# Altium integrated library Linear Technology Power Management LDO Linear Regulators.IntLib: 2339 symbols (part 89 of 131)
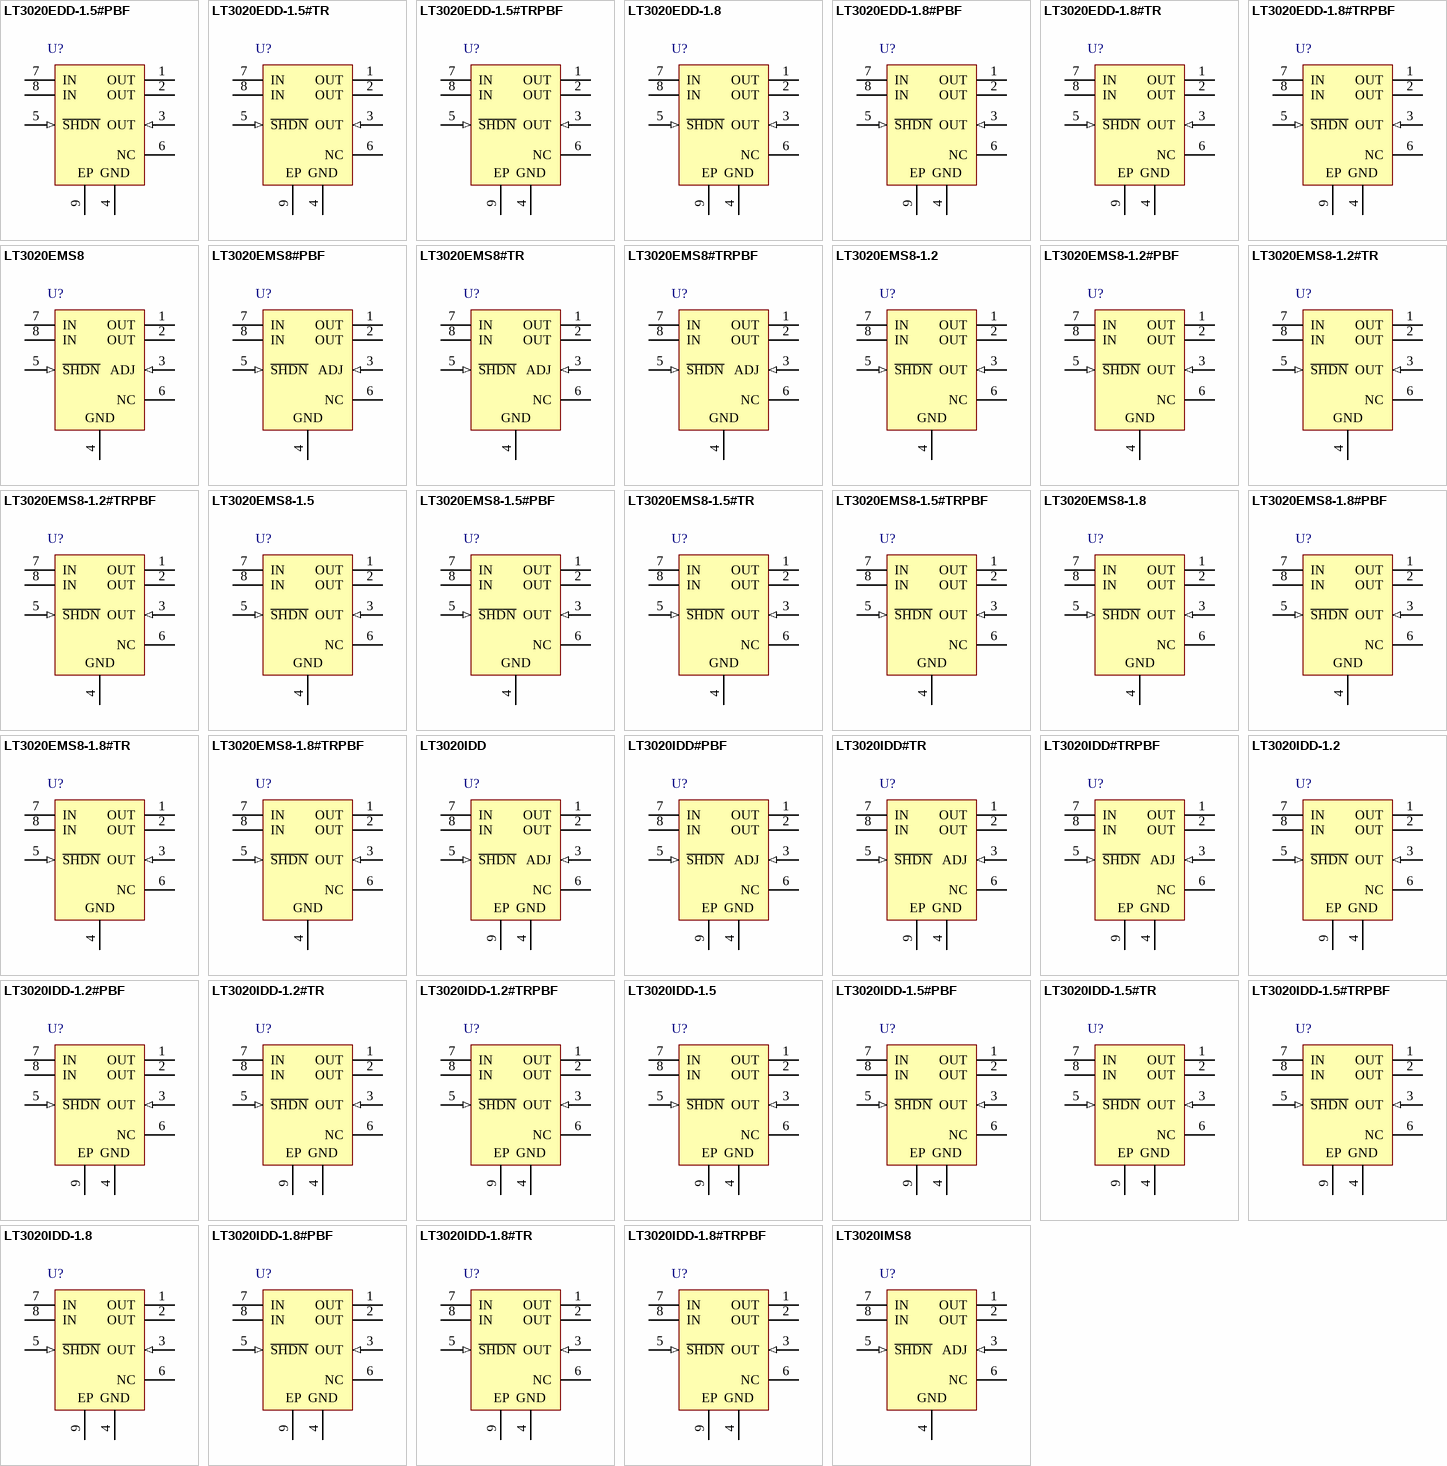
[diagram p157: symbols LT3020EDD-1.5#PBF to LT3020IMS8]

## LT3020IDD#TR
designator U?
100 mA, Low Voltage, Very Low Dropout Linear Regulator, 0.9 to 10 V Vin, Adjustable Vout, 8-pin SON (DD-8), -40 to 125 degC, Tape and Reel; Manufacturer: Linear Technology; PartNumber: LT3020IDD#TR; Discrete Pass Element: no; Dropout Voltage(V): 0.15; Iout(mA): 100; Isupply(mA): 0.12; Noise(uV): 245; Number of Outputs: 1; Output Voltage: Adj; PSRR(dB): 64; Shutdown Current(uA): 3; Vin Max(V): 10; Vin Min(V): 0.9; Vout Max(V): 9.8; Vout Min(V): 0.2; DatasheetVersion: Rev. C; PackageVersion: Jun-10; PackageReference: DD-8; PackageDescription: 8-Pin Plastic DFN, Body 3 x 3 mm, Pitch 0.5 mm; Packing: Tape and Reel; RoHS: FALSE; Mounting Technology: Surface Mount; Code_JEDEC: MO-229; ComponentLink1Description: Manufacturer URL; ComponentLink1URL: http://www.linear.com/; ComponentLink2Description: Datasheet; ComponentLink2URL: http://cds.linear.com/docs/en/datasheet/3020fc.pdf; ComponentLink3Description: Package Specification; ComponentLink3URL: http://cds.linear.com/docs/en/packaging/DFN_8_05-08-1698.pdf
footprint LT-DD-8_V (SON, 8-Leads, Body 3x3mm, Pitch 0.5mm, Thermal Pad 1.65x2.38 mm, IPC Low Density)
pins: 1 OUT (power) "These pins supply power to the load. Use a minimum output capacitor of 2.2uF to prevent oscillations. Applications with large load transients require larger output capacitors to limit peak voltage transients. See the (See Datasheet)", 2 OUT (power) "These pins supply power to the load. Use a minimum output capacitor of 2.2uF to prevent oscillations. Applications with large load transients require larger output capacitors to limit peak voltage transients. See the (See Datasheet)", 3 ADJ (in) "This pin is the inverting terminal to the error amplifier. Its typical input bias current of 20nA flows out of the pin (see curve of ADJ Pin Bias Current vs Temperature in the Typical Performance Characteristics). The ADJ (See Datasheet)", 4 GND (power) "Ground.", 5 ~{SHDN} (in) "The S\H\D\N\ pin puts the LT3020 into a low power state. Pulling the S\H\D\N\ pin low turns the output off. Drive the S\H\D\N\ pin with either logic or an open collector/ drain device with a pull-up resistor. The pull-up (See Datasheet)", 6 NC, 7 IN (power) "These pins supply power to the device. The LT3020 requires a bypass capacitor at IN if it is more than six inches away from the main input filter capacitor. The output impedance of a battery rises with frequency, so include (See Datasheet)", 8 IN (power) "These pins supply power to the device. The LT3020 requires a bypass capacitor at IN if it is more than six inches away from the main input filter capacitor. The output impedance of a battery rises with frequency, so include (See Datasheet)", 9 EP (power) "Ground. Solder Pin 9 (the exposed pad) to the PCB. Connect directly to Pin 4 for best performance."

## LT3020IDD#TRPBF
designator U?
100 mA, Low Voltage, Very Low Dropout Linear Regulator, 0.9 to 10 V Vin, Adjustable Vout, 8-pin SON (DD-8), -40 to 125 degC, Pb-Free, Tape and Reel; Manufacturer: Linear Technology; PartNumber: LT3020IDD#TRPBF; Discrete Pass Element: no; Dropout Voltage(V): 0.15; Iout(mA): 100; Isupply(mA): 0.12; Noise(uV): 245; Number of Outputs: 1; Output Voltage: Adj; PSRR(dB): 64; Shutdown Current(uA): 3; Vin Max(V): 10; Vin Min(V): 0.9; Vout Max(V): 9.8; Vout Min(V): 0.2; DatasheetVersion: Rev. C; PackageVersion: Jun-10; PackageReference: DD-8; PackageDescription: 8-Pin Plastic DFN, Body 3 x 3 mm, Pitch 0.5 mm; Supplier 1: Digi-Key; Supplier Part Number 1: LT3020IDD#TRPBF-ND; Supplier 2: Newark; Supplier Part Number 2: 78R8430; Packing: Tape and Reel; RoHS: TRUE; Mounting Technology: Surface Mount; Code_JEDEC: MO-229; ComponentLink1Description: Manufacturer URL; ComponentLink1URL: http://www.linear.com/; ComponentLink2Description: Datasheet; ComponentLink2URL: http://cds.linear.com/docs/en/datasheet/3020fc.pdf; ComponentLink3Description: Package Specification; ComponentLink3URL: http://cds.linear.com/docs/en/packaging/DFN_8_05-08-1698.pdf
footprint LT-DD-8_V (SON, 8-Leads, Body 3x3mm, Pitch 0.5mm, Thermal Pad 1.65x2.38 mm, IPC Low Density)
pins: 1 OUT (power) "These pins supply power to the load. Use a minimum output capacitor of 2.2uF to prevent oscillations. Applications with large load transients require larger output capacitors to limit peak voltage transients. See the (See Datasheet)", 2 OUT (power) "These pins supply power to the load. Use a minimum output capacitor of 2.2uF to prevent oscillations. Applications with large load transients require larger output capacitors to limit peak voltage transients. See the (See Datasheet)", 3 ADJ (in) "This pin is the inverting terminal to the error amplifier. Its typical input bias current of 20nA flows out of the pin (see curve of ADJ Pin Bias Current vs Temperature in the Typical Performance Characteristics). The ADJ (See Datasheet)", 4 GND (power) "Ground.", 5 ~{SHDN} (in) "The S\H\D\N\ pin puts the LT3020 into a low power state. Pulling the S\H\D\N\ pin low turns the output off. Drive the S\H\D\N\ pin with either logic or an open collector/ drain device with a pull-up resistor. The pull-up (See Datasheet)", 6 NC, 7 IN (power) "These pins supply power to the device. The LT3020 requires a bypass capacitor at IN if it is more than six inches away from the main input filter capacitor. The output impedance of a battery rises with frequency, so include (See Datasheet)", 8 IN (power) "These pins supply power to the device. The LT3020 requires a bypass capacitor at IN if it is more than six inches away from the main input filter capacitor. The output impedance of a battery rises with frequency, so include (See Datasheet)", 9 EP (power) "Ground. Solder Pin 9 (the exposed pad) to the PCB. Connect directly to Pin 4 for best performance."

## LT3020IDD-1.2
designator U?
100 mA, Low Voltage, Very Low Dropout Linear Regulator, 0.9 to 10 V Vin, 1.2 V Vout, 8-pin SON (DD-8), -40 to 125 degC; Manufacturer: Linear Technology; PartNumber: LT3020IDD-1.2; Discrete Pass Element: no; Dropout Voltage(V): 0.15; Iout(mA): 100; Isupply(mA): 0.12; Noise(uV): 245; Number of Outputs: 1; Output Voltage: 1.2 V; PSRR(dB): 60; Shutdown Current(uA): 3; Vin Max(V): 10; Vin Min(V): 0.9; DatasheetVersion: Rev. C; PackageVersion: Jun-10; PackageReference: DD-8; PackageDescription: 8-Pin Plastic DFN, Body 3 x 3 mm, Pitch 0.5 mm; RoHS: FALSE; Mounting Technology: Surface Mount; Code_JEDEC: MO-229; ComponentLink1Description: Manufacturer URL; ComponentLink1URL: http://www.linear.com/; ComponentLink2Description: Datasheet; ComponentLink2URL: http://cds.linear.com/docs/en/datasheet/3020fc.pdf; ComponentLink3Description: Package Specification; ComponentLink3URL: http://cds.linear.com/docs/en/packaging/DFN_8_05-08-1698.pdf
footprint LT-DD-8_V (SON, 8-Leads, Body 3x3mm, Pitch 0.5mm, Thermal Pad 1.65x2.38 mm, IPC Low Density)
pins: 1 OUT (power) "These pins supply power to the load. Use a minimum output capacitor of 2.2uF to prevent oscillations. Applications with large load transients require larger output capacitors to limit peak voltage transients. See the (See Datasheet)", 2 OUT (power) "These pins supply power to the load. Use a minimum output capacitor of 2.2uF to prevent oscillations. Applications with large load transients require larger output capacitors to limit peak voltage transients. See the (See Datasheet)", 3 OUT (in) "This pin is the sense point for the internal resistor divider. It should be tied directly to the other OUT pins (1, 2) for best results.", 4 GND (power) "Ground.", 5 ~{SHDN} (in) "The S\H\D\N\ pin puts the LT3020 into a low power state. Pulling the S\H\D\N\ pin low turns the output off. Drive the S\H\D\N\ pin with either logic or an open collector/ drain device with a pull-up resistor. The pull-up (See Datasheet)", 6 NC, 7 IN (power) "These pins supply power to the device. The LT3020 requires a bypass capacitor at IN if it is more than six inches away from the main input filter capacitor. The output impedance of a battery rises with frequency, so include (See Datasheet)", 8 IN (power) "These pins supply power to the device. The LT3020 requires a bypass capacitor at IN if it is more than six inches away from the main input filter capacitor. The output impedance of a battery rises with frequency, so include (See Datasheet)", 9 EP (power) "Ground. Solder Pin 9 (the exposed pad) to the PCB. Connect directly to Pin 4 for best performance."

## LT3020IDD-1.2#PBF
designator U?
100 mA, Low Voltage, Very Low Dropout Linear Regulator, 0.9 to 10 V Vin, 1.2 V Vout, 8-pin SON (DD-8), -40 to 125 degC, Pb-Free; Manufacturer: Linear Technology; PartNumber: LT3020IDD-1.2#PBF; Discrete Pass Element: no; Dropout Voltage(V): 0.15; Iout(mA): 100; Isupply(mA): 0.12; Noise(uV): 245; Number of Outputs: 1; Output Voltage: 1.2 V; PSRR(dB): 60; Shutdown Current(uA): 3; Vin Max(V): 10; Vin Min(V): 0.9; DatasheetVersion: Rev. C; PackageVersion: Jun-10; PackageReference: DD-8; PackageDescription: 8-Pin Plastic DFN, Body 3 x 3 mm, Pitch 0.5 mm; Supplier 1: Digi-Key; Supplier Part Number 1: LT3020IDD-1.2#PBF-ND; RoHS: TRUE; Mounting Technology: Surface Mount; Code_JEDEC: MO-229; ComponentLink1Description: Manufacturer URL; ComponentLink1URL: http://www.linear.com/; ComponentLink2Description: Datasheet; ComponentLink2URL: http://cds.linear.com/docs/en/datasheet/3020fc.pdf; ComponentLink3Description: Package Specification; ComponentLink3URL: http://cds.linear.com/docs/en/packaging/DFN_8_05-08-1698.pdf
footprint LT-DD-8_V (SON, 8-Leads, Body 3x3mm, Pitch 0.5mm, Thermal Pad 1.65x2.38 mm, IPC Low Density)
pins: 1 OUT (power) "These pins supply power to the load. Use a minimum output capacitor of 2.2uF to prevent oscillations. Applications with large load transients require larger output capacitors to limit peak voltage transients. See the (See Datasheet)", 2 OUT (power) "These pins supply power to the load. Use a minimum output capacitor of 2.2uF to prevent oscillations. Applications with large load transients require larger output capacitors to limit peak voltage transients. See the (See Datasheet)", 3 OUT (in) "This pin is the sense point for the internal resistor divider. It should be tied directly to the other OUT pins (1, 2) for best results.", 4 GND (power) "Ground.", 5 ~{SHDN} (in) "The S\H\D\N\ pin puts the LT3020 into a low power state. Pulling the S\H\D\N\ pin low turns the output off. Drive the S\H\D\N\ pin with either logic or an open collector/ drain device with a pull-up resistor. The pull-up (See Datasheet)", 6 NC, 7 IN (power) "These pins supply power to the device. The LT3020 requires a bypass capacitor at IN if it is more than six inches away from the main input filter capacitor. The output impedance of a battery rises with frequency, so include (See Datasheet)", 8 IN (power) "These pins supply power to the device. The LT3020 requires a bypass capacitor at IN if it is more than six inches away from the main input filter capacitor. The output impedance of a battery rises with frequency, so include (See Datasheet)", 9 EP (power) "Ground. Solder Pin 9 (the exposed pad) to the PCB. Connect directly to Pin 4 for best performance."

## LT3020IDD-1.2#TR
designator U?
100 mA, Low Voltage, Very Low Dropout Linear Regulator, 0.9 to 10 V Vin, 1.2 V Vout, 8-pin SON (DD-8), -40 to 125 degC, Tape and Reel; Manufacturer: Linear Technology; PartNumber: LT3020IDD-1.2#TR; Discrete Pass Element: no; Dropout Voltage(V): 0.15; Iout(mA): 100; Isupply(mA): 0.12; Noise(uV): 245; Number of Outputs: 1; Output Voltage: 1.2 V; PSRR(dB): 60; Shutdown Current(uA): 3; Vin Max(V): 10; Vin Min(V): 0.9; DatasheetVersion: Rev. C; PackageVersion: Jun-10; PackageReference: DD-8; PackageDescription: 8-Pin Plastic DFN, Body 3 x 3 mm, Pitch 0.5 mm; Packing: Tape and Reel; RoHS: FALSE; Mounting Technology: Surface Mount; Code_JEDEC: MO-229; ComponentLink1Description: Manufacturer URL; ComponentLink1URL: http://www.linear.com/; ComponentLink2Description: Datasheet; ComponentLink2URL: http://cds.linear.com/docs/en/datasheet/3020fc.pdf; ComponentLink3Description: Package Specification; ComponentLink3URL: http://cds.linear.com/docs/en/packaging/DFN_8_05-08-1698.pdf
footprint LT-DD-8_V (SON, 8-Leads, Body 3x3mm, Pitch 0.5mm, Thermal Pad 1.65x2.38 mm, IPC Low Density)
pins: 1 OUT (power) "These pins supply power to the load. Use a minimum output capacitor of 2.2uF to prevent oscillations. Applications with large load transients require larger output capacitors to limit peak voltage transients. See the (See Datasheet)", 2 OUT (power) "These pins supply power to the load. Use a minimum output capacitor of 2.2uF to prevent oscillations. Applications with large load transients require larger output capacitors to limit peak voltage transients. See the (See Datasheet)", 3 OUT (in) "This pin is the sense point for the internal resistor divider. It should be tied directly to the other OUT pins (1, 2) for best results.", 4 GND (power) "Ground.", 5 ~{SHDN} (in) "The S\H\D\N\ pin puts the LT3020 into a low power state. Pulling the S\H\D\N\ pin low turns the output off. Drive the S\H\D\N\ pin with either logic or an open collector/ drain device with a pull-up resistor. The pull-up (See Datasheet)", 6 NC, 7 IN (power) "These pins supply power to the device. The LT3020 requires a bypass capacitor at IN if it is more than six inches away from the main input filter capacitor. The output impedance of a battery rises with frequency, so include (See Datasheet)", 8 IN (power) "These pins supply power to the device. The LT3020 requires a bypass capacitor at IN if it is more than six inches away from the main input filter capacitor. The output impedance of a battery rises with frequency, so include (See Datasheet)", 9 EP (power) "Ground. Solder Pin 9 (the exposed pad) to the PCB. Connect directly to Pin 4 for best performance."

## LT3020IDD-1.2#TRPBF
designator U?
100 mA, Low Voltage, Very Low Dropout Linear Regulator, 0.9 to 10 V Vin, 1.2 V Vout, 8-pin SON (DD-8), -40 to 125 degC, Pb-Free, Tape and Reel; Manufacturer: Linear Technology; PartNumber: LT3020IDD-1.2#TRPBF; Discrete Pass Element: no; Dropout Voltage(V): 0.15; Iout(mA): 100; Isupply(mA): 0.12; Noise(uV): 245; Number of Outputs: 1; Output Voltage: 1.2 V; PSRR(dB): 60; Shutdown Current(uA): 3; Vin Max(V): 10; Vin Min(V): 0.9; DatasheetVersion: Rev. C; PackageVersion: Jun-10; PackageReference: DD-8; PackageDescription: 8-Pin Plastic DFN, Body 3 x 3 mm, Pitch 0.5 mm; Supplier 1: Digi-Key; Supplier Part Number 1: LT3020IDD-1.2#TRPBF-ND; Supplier 2: Newark; Supplier Part Number 2: 57M7953; Packing: Tape and Reel; RoHS: TRUE; Mounting Technology: Surface Mount; Code_JEDEC: MO-229; ComponentLink1Description: Manufacturer URL; ComponentLink1URL: http://www.linear.com/; ComponentLink2Description: Datasheet; ComponentLink2URL: http://cds.linear.com/docs/en/datasheet/3020fc.pdf; ComponentLink3Description: Package Specification; ComponentLink3URL: http://cds.linear.com/docs/en/packaging/DFN_8_05-08-1698.pdf
footprint LT-DD-8_V (SON, 8-Leads, Body 3x3mm, Pitch 0.5mm, Thermal Pad 1.65x2.38 mm, IPC Low Density)
pins: 1 OUT (power) "These pins supply power to the load. Use a minimum output capacitor of 2.2uF to prevent oscillations. Applications with large load transients require larger output capacitors to limit peak voltage transients. See the (See Datasheet)", 2 OUT (power) "These pins supply power to the load. Use a minimum output capacitor of 2.2uF to prevent oscillations. Applications with large load transients require larger output capacitors to limit peak voltage transients. See the (See Datasheet)", 3 OUT (in) "This pin is the sense point for the internal resistor divider. It should be tied directly to the other OUT pins (1, 2) for best results.", 4 GND (power) "Ground.", 5 ~{SHDN} (in) "The S\H\D\N\ pin puts the LT3020 into a low power state. Pulling the S\H\D\N\ pin low turns the output off. Drive the S\H\D\N\ pin with either logic or an open collector/ drain device with a pull-up resistor. The pull-up (See Datasheet)", 6 NC, 7 IN (power) "These pins supply power to the device. The LT3020 requires a bypass capacitor at IN if it is more than six inches away from the main input filter capacitor. The output impedance of a battery rises with frequency, so include (See Datasheet)", 8 IN (power) "These pins supply power to the device. The LT3020 requires a bypass capacitor at IN if it is more than six inches away from the main input filter capacitor. The output impedance of a battery rises with frequency, so include (See Datasheet)", 9 EP (power) "Ground. Solder Pin 9 (the exposed pad) to the PCB. Connect directly to Pin 4 for best performance."

## LT3020IDD-1.5
designator U?
100 mA, Low Voltage, Very Low Dropout Linear Regulator, 0.9 to 10 V Vin, 1.5 V Vout, 8-pin SON (DD-8), -40 to 125 degC; Manufacturer: Linear Technology; PartNumber: LT3020IDD-1.5; Discrete Pass Element: no; Dropout Voltage(V): 0.15; Iout(mA): 100; Isupply(mA): 0.12; Noise(uV): 245; Number of Outputs: 1; Output Voltage: 1.5 V; PSRR(dB): 58; Shutdown Current(uA): 3; Vin Max(V): 10; Vin Min(V): 0.9; DatasheetVersion: Rev. C; PackageVersion: Jun-10; PackageReference: DD-8; PackageDescription: 8-Pin Plastic DFN, Body 3 x 3 mm, Pitch 0.5 mm; RoHS: FALSE; Mounting Technology: Surface Mount; Code_JEDEC: MO-229; ComponentLink1Description: Manufacturer URL; ComponentLink1URL: http://www.linear.com/; ComponentLink2Description: Datasheet; ComponentLink2URL: http://cds.linear.com/docs/en/datasheet/3020fc.pdf; ComponentLink3Description: Package Specification; ComponentLink3URL: http://cds.linear.com/docs/en/packaging/DFN_8_05-08-1698.pdf
footprint LT-DD-8_V (SON, 8-Leads, Body 3x3mm, Pitch 0.5mm, Thermal Pad 1.65x2.38 mm, IPC Low Density)
pins: 1 OUT (power) "These pins supply power to the load. Use a minimum output capacitor of 2.2uF to prevent oscillations. Applications with large load transients require larger output capacitors to limit peak voltage transients. See the (See Datasheet)", 2 OUT (power) "These pins supply power to the load. Use a minimum output capacitor of 2.2uF to prevent oscillations. Applications with large load transients require larger output capacitors to limit peak voltage transients. See the (See Datasheet)", 3 OUT (in) "This pin is the sense point for the internal resistor divider. It should be tied directly to the other OUT pins (1, 2) for best results.", 4 GND (power) "Ground.", 5 ~{SHDN} (in) "The S\H\D\N\ pin puts the LT3020 into a low power state. Pulling the S\H\D\N\ pin low turns the output off. Drive the S\H\D\N\ pin with either logic or an open collector/ drain device with a pull-up resistor. The pull-up (See Datasheet)", 6 NC, 7 IN (power) "These pins supply power to the device. The LT3020 requires a bypass capacitor at IN if it is more than six inches away from the main input filter capacitor. The output impedance of a battery rises with frequency, so include (See Datasheet)", 8 IN (power) "These pins supply power to the device. The LT3020 requires a bypass capacitor at IN if it is more than six inches away from the main input filter capacitor. The output impedance of a battery rises with frequency, so include (See Datasheet)", 9 EP (power) "Ground. Solder Pin 9 (the exposed pad) to the PCB. Connect directly to Pin 4 for best performance."

## LT3020IDD-1.5#PBF
designator U?
100 mA, Low Voltage, Very Low Dropout Linear Regulator, 0.9 to 10 V Vin, 1.5 V Vout, 8-pin SON (DD-8), -40 to 125 degC, Pb-Free; Manufacturer: Linear Technology; PartNumber: LT3020IDD-1.5#PBF; Discrete Pass Element: no; Dropout Voltage(V): 0.15; Iout(mA): 100; Isupply(mA): 0.12; Noise(uV): 245; Number of Outputs: 1; Output Voltage: 1.5 V; PSRR(dB): 58; Shutdown Current(uA): 3; Vin Max(V): 10; Vin Min(V): 0.9; DatasheetVersion: Rev. C; PackageVersion: Jun-10; PackageReference: DD-8; PackageDescription: 8-Pin Plastic DFN, Body 3 x 3 mm, Pitch 0.5 mm; Supplier 1: Digi-Key; Supplier Part Number 1: LT3020IDD-1.5#PBF-ND; RoHS: TRUE; Mounting Technology: Surface Mount; Code_JEDEC: MO-229; ComponentLink1Description: Manufacturer URL; ComponentLink1URL: http://www.linear.com/; ComponentLink2Description: Datasheet; ComponentLink2URL: http://cds.linear.com/docs/en/datasheet/3020fc.pdf; ComponentLink3Description: Package Specification; ComponentLink3URL: http://cds.linear.com/docs/en/packaging/DFN_8_05-08-1698.pdf
footprint LT-DD-8_V (SON, 8-Leads, Body 3x3mm, Pitch 0.5mm, Thermal Pad 1.65x2.38 mm, IPC Low Density)
pins: 1 OUT (power) "These pins supply power to the load. Use a minimum output capacitor of 2.2uF to prevent oscillations. Applications with large load transients require larger output capacitors to limit peak voltage transients. See the (See Datasheet)", 2 OUT (power) "These pins supply power to the load. Use a minimum output capacitor of 2.2uF to prevent oscillations. Applications with large load transients require larger output capacitors to limit peak voltage transients. See the (See Datasheet)", 3 OUT (in) "This pin is the sense point for the internal resistor divider. It should be tied directly to the other OUT pins (1, 2) for best results.", 4 GND (power) "Ground.", 5 ~{SHDN} (in) "The S\H\D\N\ pin puts the LT3020 into a low power state. Pulling the S\H\D\N\ pin low turns the output off. Drive the S\H\D\N\ pin with either logic or an open collector/ drain device with a pull-up resistor. The pull-up (See Datasheet)", 6 NC, 7 IN (power) "These pins supply power to the device. The LT3020 requires a bypass capacitor at IN if it is more than six inches away from the main input filter capacitor. The output impedance of a battery rises with frequency, so include (See Datasheet)", 8 IN (power) "These pins supply power to the device. The LT3020 requires a bypass capacitor at IN if it is more than six inches away from the main input filter capacitor. The output impedance of a battery rises with frequency, so include (See Datasheet)", 9 EP (power) "Ground. Solder Pin 9 (the exposed pad) to the PCB. Connect directly to Pin 4 for best performance."

## LT3020IDD-1.5#TR
designator U?
100 mA, Low Voltage, Very Low Dropout Linear Regulator, 0.9 to 10 V Vin, 1.5 V Vout, 8-pin SON (DD-8), -40 to 125 degC, Tape and Reel; Manufacturer: Linear Technology; PartNumber: LT3020IDD-1.5#TR; Discrete Pass Element: no; Dropout Voltage(V): 0.15; Iout(mA): 100; Isupply(mA): 0.12; Noise(uV): 245; Number of Outputs: 1; Output Voltage: 1.5 V; PSRR(dB): 58; Shutdown Current(uA): 3; Vin Max(V): 10; Vin Min(V): 0.9; DatasheetVersion: Rev. C; PackageVersion: Jun-10; PackageReference: DD-8; PackageDescription: 8-Pin Plastic DFN, Body 3 x 3 mm, Pitch 0.5 mm; Packing: Tape and Reel; RoHS: FALSE; Mounting Technology: Surface Mount; Code_JEDEC: MO-229; ComponentLink1Description: Manufacturer URL; ComponentLink1URL: http://www.linear.com/; ComponentLink2Description: Datasheet; ComponentLink2URL: http://cds.linear.com/docs/en/datasheet/3020fc.pdf; ComponentLink3Description: Package Specification; ComponentLink3URL: http://cds.linear.com/docs/en/packaging/DFN_8_05-08-1698.pdf
footprint LT-DD-8_V (SON, 8-Leads, Body 3x3mm, Pitch 0.5mm, Thermal Pad 1.65x2.38 mm, IPC Low Density)
pins: 1 OUT (power) "These pins supply power to the load. Use a minimum output capacitor of 2.2uF to prevent oscillations. Applications with large load transients require larger output capacitors to limit peak voltage transients. See the (See Datasheet)", 2 OUT (power) "These pins supply power to the load. Use a minimum output capacitor of 2.2uF to prevent oscillations. Applications with large load transients require larger output capacitors to limit peak voltage transients. See the (See Datasheet)", 3 OUT (in) "This pin is the sense point for the internal resistor divider. It should be tied directly to the other OUT pins (1, 2) for best results.", 4 GND (power) "Ground.", 5 ~{SHDN} (in) "The S\H\D\N\ pin puts the LT3020 into a low power state. Pulling the S\H\D\N\ pin low turns the output off. Drive the S\H\D\N\ pin with either logic or an open collector/ drain device with a pull-up resistor. The pull-up (See Datasheet)", 6 NC, 7 IN (power) "These pins supply power to the device. The LT3020 requires a bypass capacitor at IN if it is more than six inches away from the main input filter capacitor. The output impedance of a battery rises with frequency, so include (See Datasheet)", 8 IN (power) "These pins supply power to the device. The LT3020 requires a bypass capacitor at IN if it is more than six inches away from the main input filter capacitor. The output impedance of a battery rises with frequency, so include (See Datasheet)", 9 EP (power) "Ground. Solder Pin 9 (the exposed pad) to the PCB. Connect directly to Pin 4 for best performance."

## LT3020IDD-1.5#TRPBF
designator U?
100 mA, Low Voltage, Very Low Dropout Linear Regulator, 0.9 to 10 V Vin, 1.5 V Vout, 8-pin SON (DD-8), -40 to 125 degC, Pb-Free, Tape and Reel; Manufacturer: Linear Technology; PartNumber: LT3020IDD-1.5#TRPBF; Discrete Pass Element: no; Dropout Voltage(V): 0.15; Iout(mA): 100; Isupply(mA): 0.12; Noise(uV): 245; Number of Outputs: 1; Output Voltage: 1.5 V; PSRR(dB): 58; Shutdown Current(uA): 3; Vin Max(V): 10; Vin Min(V): 0.9; DatasheetVersion: Rev. C; PackageVersion: Jun-10; PackageReference: DD-8; PackageDescription: 8-Pin Plastic DFN, Body 3 x 3 mm, Pitch 0.5 mm; Supplier 1: Digi-Key; Supplier Part Number 1: LT3020IDD-1.5#TRPBF-ND; Packing: Tape and Reel; RoHS: TRUE; Mounting Technology: Surface Mount; Code_JEDEC: MO-229; ComponentLink1Description: Manufacturer URL; ComponentLink1URL: http://www.linear.com/; ComponentLink2Description: Datasheet; ComponentLink2URL: http://cds.linear.com/docs/en/datasheet/3020fc.pdf; ComponentLink3Description: Package Specification; ComponentLink3URL: http://cds.linear.com/docs/en/packaging/DFN_8_05-08-1698.pdf
footprint LT-DD-8_V (SON, 8-Leads, Body 3x3mm, Pitch 0.5mm, Thermal Pad 1.65x2.38 mm, IPC Low Density)
pins: 1 OUT (power) "These pins supply power to the load. Use a minimum output capacitor of 2.2uF to prevent oscillations. Applications with large load transients require larger output capacitors to limit peak voltage transients. See the (See Datasheet)", 2 OUT (power) "These pins supply power to the load. Use a minimum output capacitor of 2.2uF to prevent oscillations. Applications with large load transients require larger output capacitors to limit peak voltage transients. See the (See Datasheet)", 3 OUT (in) "This pin is the sense point for the internal resistor divider. It should be tied directly to the other OUT pins (1, 2) for best results.", 4 GND (power) "Ground.", 5 ~{SHDN} (in) "The S\H\D\N\ pin puts the LT3020 into a low power state. Pulling the S\H\D\N\ pin low turns the output off. Drive the S\H\D\N\ pin with either logic or an open collector/ drain device with a pull-up resistor. The pull-up (See Datasheet)", 6 NC, 7 IN (power) "These pins supply power to the device. The LT3020 requires a bypass capacitor at IN if it is more than six inches away from the main input filter capacitor. The output impedance of a battery rises with frequency, so include (See Datasheet)", 8 IN (power) "These pins supply power to the device. The LT3020 requires a bypass capacitor at IN if it is more than six inches away from the main input filter capacitor. The output impedance of a battery rises with frequency, so include (See Datasheet)", 9 EP (power) "Ground. Solder Pin 9 (the exposed pad) to the PCB. Connect directly to Pin 4 for best performance."

## LT3020IDD-1.8
designator U?
100 mA, Low Voltage, Very Low Dropout Linear Regulator, 0.9 to 10 V Vin, 1.8 V Vout, 8-pin SON (DD-8), -40 to 125 degC; Manufacturer: Linear Technology; PartNumber: LT3020IDD-1.8; Discrete Pass Element: no; Dropout Voltage(V): 0.15; Iout(mA): 100; Isupply(mA): 0.12; Noise(uV): 245; Number of Outputs: 1; Output Voltage: 1.8 V; PSRR(dB): 56; Shutdown Current(uA): 3; Vin Max(V): 10; Vin Min(V): 0.9; DatasheetVersion: Rev. C; PackageVersion: Jun-10; PackageReference: DD-8; PackageDescription: 8-Pin Plastic DFN, Body 3 x 3 mm, Pitch 0.5 mm; RoHS: FALSE; Mounting Technology: Surface Mount; Code_JEDEC: MO-229; ComponentLink1Description: Manufacturer URL; ComponentLink1URL: http://www.linear.com/; ComponentLink2Description: Datasheet; ComponentLink2URL: http://cds.linear.com/docs/en/datasheet/3020fc.pdf; ComponentLink3Description: Package Specification; ComponentLink3URL: http://cds.linear.com/docs/en/packaging/DFN_8_05-08-1698.pdf
footprint LT-DD-8_V (SON, 8-Leads, Body 3x3mm, Pitch 0.5mm, Thermal Pad 1.65x2.38 mm, IPC Low Density)
pins: 1 OUT (power) "These pins supply power to the load. Use a minimum output capacitor of 2.2uF to prevent oscillations. Applications with large load transients require larger output capacitors to limit peak voltage transients. See the (See Datasheet)", 2 OUT (power) "These pins supply power to the load. Use a minimum output capacitor of 2.2uF to prevent oscillations. Applications with large load transients require larger output capacitors to limit peak voltage transients. See the (See Datasheet)", 3 OUT (in) "This pin is the sense point for the internal resistor divider. It should be tied directly to the other OUT pins (1, 2) for best results.", 4 GND (power) "Ground.", 5 ~{SHDN} (in) "The S\H\D\N\ pin puts the LT3020 into a low power state. Pulling the S\H\D\N\ pin low turns the output off. Drive the S\H\D\N\ pin with either logic or an open collector/ drain device with a pull-up resistor. The pull-up (See Datasheet)", 6 NC, 7 IN (power) "These pins supply power to the device. The LT3020 requires a bypass capacitor at IN if it is more than six inches away from the main input filter capacitor. The output impedance of a battery rises with frequency, so include (See Datasheet)", 8 IN (power) "These pins supply power to the device. The LT3020 requires a bypass capacitor at IN if it is more than six inches away from the main input filter capacitor. The output impedance of a battery rises with frequency, so include (See Datasheet)", 9 EP (power) "Ground. Solder Pin 9 (the exposed pad) to the PCB. Connect directly to Pin 4 for best performance."

## LT3020IDD-1.8#PBF
designator U?
100 mA, Low Voltage, Very Low Dropout Linear Regulator, 0.9 to 10 V Vin, 1.8 V Vout, 8-pin SON (DD-8), -40 to 125 degC, Pb-Free; Manufacturer: Linear Technology; PartNumber: LT3020IDD-1.8#PBF; Discrete Pass Element: no; Dropout Voltage(V): 0.15; Iout(mA): 100; Isupply(mA): 0.12; Noise(uV): 245; Number of Outputs: 1; Output Voltage: 1.8 V; PSRR(dB): 56; Shutdown Current(uA): 3; Vin Max(V): 10; Vin Min(V): 0.9; DatasheetVersion: Rev. C; PackageVersion: Jun-10; PackageReference: DD-8; PackageDescription: 8-Pin Plastic DFN, Body 3 x 3 mm, Pitch 0.5 mm; Supplier 1: Digi-Key; Supplier Part Number 1: LT3020IDD-1.8#PBF-ND; RoHS: TRUE; Mounting Technology: Surface Mount; Code_JEDEC: MO-229; ComponentLink1Description: Manufacturer URL; ComponentLink1URL: http://www.linear.com/; ComponentLink2Description: Datasheet; ComponentLink2URL: http://cds.linear.com/docs/en/datasheet/3020fc.pdf; ComponentLink3Description: Package Specification; ComponentLink3URL: http://cds.linear.com/docs/en/packaging/DFN_8_05-08-1698.pdf
footprint LT-DD-8_V (SON, 8-Leads, Body 3x3mm, Pitch 0.5mm, Thermal Pad 1.65x2.38 mm, IPC Low Density)
pins: 1 OUT (power) "These pins supply power to the load. Use a minimum output capacitor of 2.2uF to prevent oscillations. Applications with large load transients require larger output capacitors to limit peak voltage transients. See the (See Datasheet)", 2 OUT (power) "These pins supply power to the load. Use a minimum output capacitor of 2.2uF to prevent oscillations. Applications with large load transients require larger output capacitors to limit peak voltage transients. See the (See Datasheet)", 3 OUT (in) "This pin is the sense point for the internal resistor divider. It should be tied directly to the other OUT pins (1, 2) for best results.", 4 GND (power) "Ground.", 5 ~{SHDN} (in) "The S\H\D\N\ pin puts the LT3020 into a low power state. Pulling the S\H\D\N\ pin low turns the output off. Drive the S\H\D\N\ pin with either logic or an open collector/ drain device with a pull-up resistor. The pull-up (See Datasheet)", 6 NC, 7 IN (power) "These pins supply power to the device. The LT3020 requires a bypass capacitor at IN if it is more than six inches away from the main input filter capacitor. The output impedance of a battery rises with frequency, so include (See Datasheet)", 8 IN (power) "These pins supply power to the device. The LT3020 requires a bypass capacitor at IN if it is more than six inches away from the main input filter capacitor. The output impedance of a battery rises with frequency, so include (See Datasheet)", 9 EP (power) "Ground. Solder Pin 9 (the exposed pad) to the PCB. Connect directly to Pin 4 for best performance."

## LT3020IDD-1.8#TR
designator U?
100 mA, Low Voltage, Very Low Dropout Linear Regulator, 0.9 to 10 V Vin, 1.8 V Vout, 8-pin SON (DD-8), -40 to 125 degC, Tape and Reel; Manufacturer: Linear Technology; PartNumber: LT3020IDD-1.8#TR; Discrete Pass Element: no; Dropout Voltage(V): 0.15; Iout(mA): 100; Isupply(mA): 0.12; Noise(uV): 245; Number of Outputs: 1; Output Voltage: 1.8 V; PSRR(dB): 56; Shutdown Current(uA): 3; Vin Max(V): 10; Vin Min(V): 0.9; DatasheetVersion: Rev. C; PackageVersion: Jun-10; PackageReference: DD-8; PackageDescription: 8-Pin Plastic DFN, Body 3 x 3 mm, Pitch 0.5 mm; Packing: Tape and Reel; RoHS: FALSE; Mounting Technology: Surface Mount; Code_JEDEC: MO-229; ComponentLink1Description: Manufacturer URL; ComponentLink1URL: http://www.linear.com/; ComponentLink2Description: Datasheet; ComponentLink2URL: http://cds.linear.com/docs/en/datasheet/3020fc.pdf; ComponentLink3Description: Package Specification; ComponentLink3URL: http://cds.linear.com/docs/en/packaging/DFN_8_05-08-1698.pdf
footprint LT-DD-8_V (SON, 8-Leads, Body 3x3mm, Pitch 0.5mm, Thermal Pad 1.65x2.38 mm, IPC Low Density)
pins: 1 OUT (power) "These pins supply power to the load. Use a minimum output capacitor of 2.2uF to prevent oscillations. Applications with large load transients require larger output capacitors to limit peak voltage transients. See the (See Datasheet)", 2 OUT (power) "These pins supply power to the load. Use a minimum output capacitor of 2.2uF to prevent oscillations. Applications with large load transients require larger output capacitors to limit peak voltage transients. See the (See Datasheet)", 3 OUT (in) "This pin is the sense point for the internal resistor divider. It should be tied directly to the other OUT pins (1, 2) for best results.", 4 GND (power) "Ground.", 5 ~{SHDN} (in) "The S\H\D\N\ pin puts the LT3020 into a low power state. Pulling the S\H\D\N\ pin low turns the output off. Drive the S\H\D\N\ pin with either logic or an open collector/ drain device with a pull-up resistor. The pull-up (See Datasheet)", 6 NC, 7 IN (power) "These pins supply power to the device. The LT3020 requires a bypass capacitor at IN if it is more than six inches away from the main input filter capacitor. The output impedance of a battery rises with frequency, so include (See Datasheet)", 8 IN (power) "These pins supply power to the device. The LT3020 requires a bypass capacitor at IN if it is more than six inches away from the main input filter capacitor. The output impedance of a battery rises with frequency, so include (See Datasheet)", 9 EP (power) "Ground. Solder Pin 9 (the exposed pad) to the PCB. Connect directly to Pin 4 for best performance."

## LT3020IDD-1.8#TRPBF
designator U?
100 mA, Low Voltage, Very Low Dropout Linear Regulator, 0.9 to 10 V Vin, 1.8 V Vout, 8-pin SON (DD-8), -40 to 125 degC, Pb-Free, Tape and Reel; Manufacturer: Linear Technology; PartNumber: LT3020IDD-1.8#TRPBF; Discrete Pass Element: no; Dropout Voltage(V): 0.15; Iout(mA): 100; Isupply(mA): 0.12; Noise(uV): 245; Number of Outputs: 1; Output Voltage: 1.8 V; PSRR(dB): 56; Shutdown Current(uA): 3; Vin Max(V): 10; Vin Min(V): 0.9; DatasheetVersion: Rev. C; PackageVersion: Jun-10; PackageReference: DD-8; PackageDescription: 8-Pin Plastic DFN, Body 3 x 3 mm, Pitch 0.5 mm; Supplier 1: Digi-Key; Supplier Part Number 1: LT3020IDD-1.8#TRPBF-ND; Supplier 2: Newark; Supplier Part Number 2: 57M7961; Packing: Tape and Reel; RoHS: TRUE; Mounting Technology: Surface Mount; Code_JEDEC: MO-229; ComponentLink1Description: Manufacturer URL; ComponentLink1URL: http://www.linear.com/; ComponentLink2Description: Datasheet; ComponentLink2URL: http://cds.linear.com/docs/en/datasheet/3020fc.pdf; ComponentLink3Description: Package Specification; ComponentLink3URL: http://cds.linear.com/docs/en/packaging/DFN_8_05-08-1698.pdf
footprint LT-DD-8_V (SON, 8-Leads, Body 3x3mm, Pitch 0.5mm, Thermal Pad 1.65x2.38 mm, IPC Low Density)
pins: 1 OUT (power) "These pins supply power to the load. Use a minimum output capacitor of 2.2uF to prevent oscillations. Applications with large load transients require larger output capacitors to limit peak voltage transients. See the (See Datasheet)", 2 OUT (power) "These pins supply power to the load. Use a minimum output capacitor of 2.2uF to prevent oscillations. Applications with large load transients require larger output capacitors to limit peak voltage transients. See the (See Datasheet)", 3 OUT (in) "This pin is the sense point for the internal resistor divider. It should be tied directly to the other OUT pins (1, 2) for best results.", 4 GND (power) "Ground.", 5 ~{SHDN} (in) "The S\H\D\N\ pin puts the LT3020 into a low power state. Pulling the S\H\D\N\ pin low turns the output off. Drive the S\H\D\N\ pin with either logic or an open collector/ drain device with a pull-up resistor. The pull-up (See Datasheet)", 6 NC, 7 IN (power) "These pins supply power to the device. The LT3020 requires a bypass capacitor at IN if it is more than six inches away from the main input filter capacitor. The output impedance of a battery rises with frequency, so include (See Datasheet)", 8 IN (power) "These pins supply power to the device. The LT3020 requires a bypass capacitor at IN if it is more than six inches away from the main input filter capacitor. The output impedance of a battery rises with frequency, so include (See Datasheet)", 9 EP (power) "Ground. Solder Pin 9 (the exposed pad) to the PCB. Connect directly to Pin 4 for best performance."

## LT3020IMS8
designator U?
100 mA, Low Voltage, Very Low Dropout Linear Regulator, 0.9 to 10 V Vin, Adjustable Vout, 8-pin SOP (MS8-8), -40 to 125 degC; Manufacturer: Linear Technology; PartNumber: LT3020IMS8; Discrete Pass Element: no; Dropout Voltage(V): 0.15; Iout(mA): 100; Isupply(mA): 0.12; Noise(uV): 245; Number of Outputs: 1; Output Voltage: Adj; PSRR(dB): 64; Shutdown Current(uA): 3; Vin Max(V): 10; Vin Min(V): 0.9; Vout Max(V): 9.8; Vout Min(V): 0.2; DatasheetVersion: Rev. C; PackageVersion: Rev. G, 03/2012; PackageReference: MS8-8; PackageDescription: 8-Pin Plastic MSOP, Body 3 x 3 mm, Pitch 0.65 mm; RoHS: FALSE; Mounting Technology: Surface Mount; ComponentLink1Description: Manufacturer URL; ComponentLink1URL: http://www.linear.com/; ComponentLink2Description: Datasheet; ComponentLink2URL: http://cds.linear.com/docs/en/datasheet/3020fc.pdf; ComponentLink3Description: Package Specification; ComponentLink3URL: http://cds.linear.com/docs/en/packaging/05081660_G_MS8.pdf
footprint LT-MS8-8_N (SOP, 8-Leads, Body 3x3mm, Pitch 0.65mm, IPC Medium Density)
footprint LT-MS8-8_L (SOP, 8-Leads, Body 3x3mm, Pitch 0.65mm, IPC High Density)
footprint LT-MS8-8_M (SOP, 8-Leads, Body 3x3mm, Pitch 0.65mm, IPC Low Density)
pins: 1 OUT (power) "These pins supply power to the load. Use a minimum output capacitor of 2.2uF to prevent oscillations. Applications with large load transients require larger output capacitors to limit peak voltage transients. See the (See Datasheet)", 2 OUT (power) "These pins supply power to the load. Use a minimum output capacitor of 2.2uF to prevent oscillations. Applications with large load transients require larger output capacitors to limit peak voltage transients. See the (See Datasheet)", 3 ADJ (in) "This pin is the inverting terminal to the error amplifier. Its typical input bias current of 20nA flows out of the pin (see curve of ADJ Pin Bias Current vs Temperature in the Typical Performance Characteristics). The ADJ (See Datasheet)", 4 GND (power) "Ground.", 5 ~{SHDN} (in) "The S\H\D\N\ pin puts the LT3020 into a low power state. Pulling the S\H\D\N\ pin low turns the output off. Drive the S\H\D\N\ pin with either logic or an open collector/ drain device with a pull-up resistor. The pull-up (See Datasheet)", 6 NC, 7 IN (power) "These pins supply power to the device. The LT3020 requires a bypass capacitor at IN if it is more than six inches away from the main input filter capacitor. The output impedance of a battery rises with frequency, so include (See Datasheet)", 8 IN (power) "These pins supply power to the device. The LT3020 requires a bypass capacitor at IN if it is more than six inches away from the main input filter capacitor. The output impedance of a battery rises with frequency, so include (See Datasheet)"

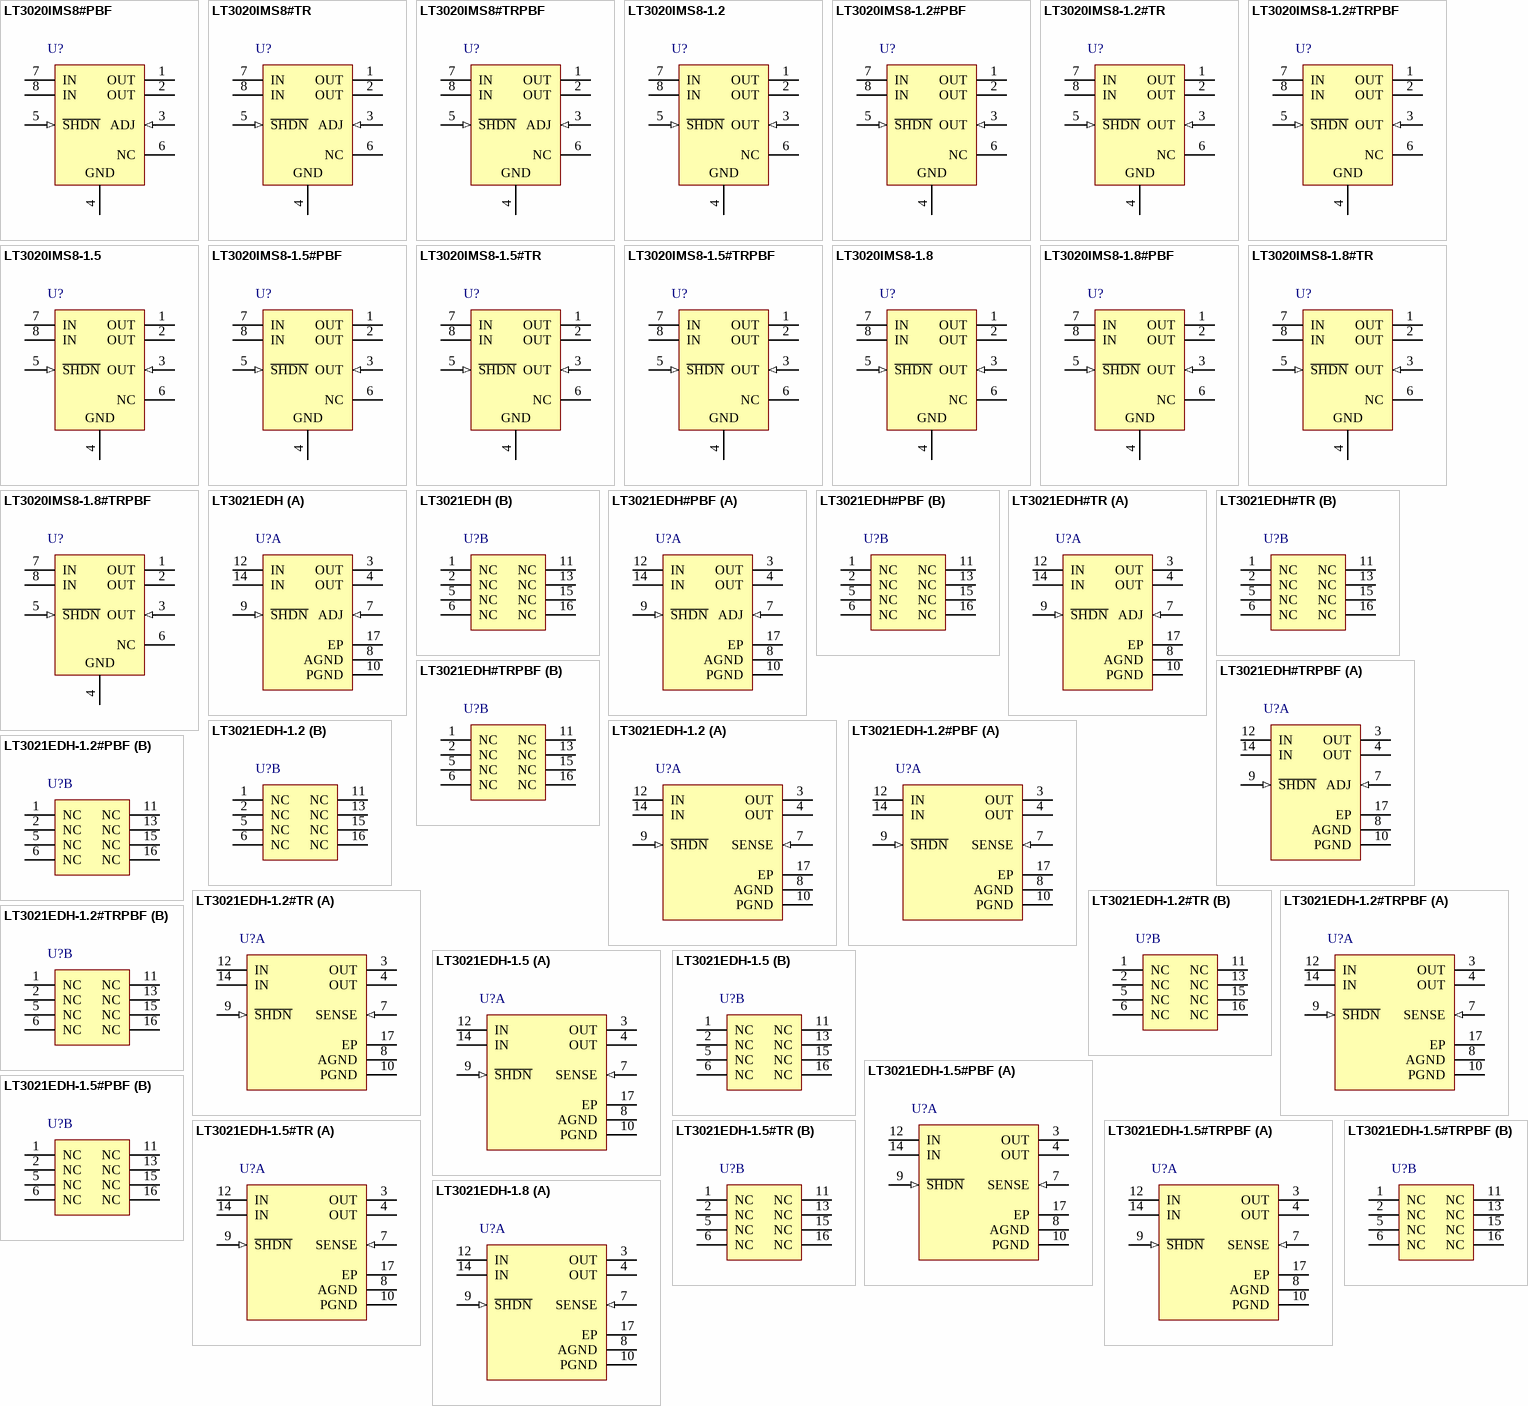
[diagram p52: symbols LT3020IMS8#PBF to LT3021EDH-1.8]

## LT3020IMS8#PBF
designator U?
100 mA, Low Voltage, Very Low Dropout Linear Regulator, 0.9 to 10 V Vin, Adjustable Vout, 8-pin SOP (MS8-8), -40 to 125 degC, Pb-Free; Manufacturer: Linear Technology; PartNumber: LT3020IMS8#PBF; Discrete Pass Element: no; Dropout Voltage(V): 0.15; Iout(mA): 100; Isupply(mA): 0.12; Noise(uV): 245; Number of Outputs: 1; Output Voltage: Adj; PSRR(dB): 64; Shutdown Current(uA): 3; Vin Max(V): 10; Vin Min(V): 0.9; Vout Max(V): 9.8; Vout Min(V): 0.2; DatasheetVersion: Rev. C; PackageVersion: Rev. G, 03/2012; PackageReference: MS8-8; PackageDescription: 8-Pin Plastic MSOP, Body 3 x 3 mm, Pitch 0.65 mm; Supplier 1: Digi-Key; Supplier Part Number 1: LT3020IMS8#PBF-ND; Supplier 2: Newark; Supplier Part Number 2: 72R5790; RoHS: TRUE; Mounting Technology: Surface Mount; ComponentLink1Description: Manufacturer URL; ComponentLink1URL: http://www.linear.com/; ComponentLink2Description: Datasheet; ComponentLink2URL: http://cds.linear.com/docs/en/datasheet/3020fc.pdf; ComponentLink3Description: Package Specification; ComponentLink3URL: http://cds.linear.com/docs/en/packaging/05081660_G_MS8.pdf
footprint LT-MS8-8_N (SOP, 8-Leads, Body 3x3mm, Pitch 0.65mm, IPC Medium Density)
footprint LT-MS8-8_L (SOP, 8-Leads, Body 3x3mm, Pitch 0.65mm, IPC High Density)
footprint LT-MS8-8_M (SOP, 8-Leads, Body 3x3mm, Pitch 0.65mm, IPC Low Density)
pins: 1 OUT (power) "These pins supply power to the load. Use a minimum output capacitor of 2.2uF to prevent oscillations. Applications with large load transients require larger output capacitors to limit peak voltage transients. See the (See Datasheet)", 2 OUT (power) "These pins supply power to the load. Use a minimum output capacitor of 2.2uF to prevent oscillations. Applications with large load transients require larger output capacitors to limit peak voltage transients. See the (See Datasheet)", 3 ADJ (in) "This pin is the inverting terminal to the error amplifier. Its typical input bias current of 20nA flows out of the pin (see curve of ADJ Pin Bias Current vs Temperature in the Typical Performance Characteristics). The ADJ (See Datasheet)", 4 GND (power) "Ground.", 5 ~{SHDN} (in) "The S\H\D\N\ pin puts the LT3020 into a low power state. Pulling the S\H\D\N\ pin low turns the output off. Drive the S\H\D\N\ pin with either logic or an open collector/ drain device with a pull-up resistor. The pull-up (See Datasheet)", 6 NC, 7 IN (power) "These pins supply power to the device. The LT3020 requires a bypass capacitor at IN if it is more than six inches away from the main input filter capacitor. The output impedance of a battery rises with frequency, so include (See Datasheet)", 8 IN (power) "These pins supply power to the device. The LT3020 requires a bypass capacitor at IN if it is more than six inches away from the main input filter capacitor. The output impedance of a battery rises with frequency, so include (See Datasheet)"

## LT3020IMS8#TR
designator U?
100 mA, Low Voltage, Very Low Dropout Linear Regulator, 0.9 to 10 V Vin, Adjustable Vout, 8-pin SOP (MS8-8), -40 to 125 degC, Tape and Reel; Manufacturer: Linear Technology; PartNumber: LT3020IMS8#TR; Discrete Pass Element: no; Dropout Voltage(V): 0.15; Iout(mA): 100; Isupply(mA): 0.12; Noise(uV): 245; Number of Outputs: 1; Output Voltage: Adj; PSRR(dB): 64; Shutdown Current(uA): 3; Vin Max(V): 10; Vin Min(V): 0.9; Vout Max(V): 9.8; Vout Min(V): 0.2; DatasheetVersion: Rev. C; PackageVersion: Rev. G, 03/2012; PackageReference: MS8-8; PackageDescription: 8-Pin Plastic MSOP, Body 3 x 3 mm, Pitch 0.65 mm; Packing: Tape and Reel; RoHS: FALSE; Mounting Technology: Surface Mount; ComponentLink1Description: Manufacturer URL; ComponentLink1URL: http://www.linear.com/; ComponentLink2Description: Datasheet; ComponentLink2URL: http://cds.linear.com/docs/en/datasheet/3020fc.pdf; ComponentLink3Description: Package Specification; ComponentLink3URL: http://cds.linear.com/docs/en/packaging/05081660_G_MS8.pdf
footprint LT-MS8-8_N (SOP, 8-Leads, Body 3x3mm, Pitch 0.65mm, IPC Medium Density)
footprint LT-MS8-8_L (SOP, 8-Leads, Body 3x3mm, Pitch 0.65mm, IPC High Density)
footprint LT-MS8-8_M (SOP, 8-Leads, Body 3x3mm, Pitch 0.65mm, IPC Low Density)
pins: 1 OUT (power) "These pins supply power to the load. Use a minimum output capacitor of 2.2uF to prevent oscillations. Applications with large load transients require larger output capacitors to limit peak voltage transients. See the (See Datasheet)", 2 OUT (power) "These pins supply power to the load. Use a minimum output capacitor of 2.2uF to prevent oscillations. Applications with large load transients require larger output capacitors to limit peak voltage transients. See the (See Datasheet)", 3 ADJ (in) "This pin is the inverting terminal to the error amplifier. Its typical input bias current of 20nA flows out of the pin (see curve of ADJ Pin Bias Current vs Temperature in the Typical Performance Characteristics). The ADJ (See Datasheet)", 4 GND (power) "Ground.", 5 ~{SHDN} (in) "The S\H\D\N\ pin puts the LT3020 into a low power state. Pulling the S\H\D\N\ pin low turns the output off. Drive the S\H\D\N\ pin with either logic or an open collector/ drain device with a pull-up resistor. The pull-up (See Datasheet)", 6 NC, 7 IN (power) "These pins supply power to the device. The LT3020 requires a bypass capacitor at IN if it is more than six inches away from the main input filter capacitor. The output impedance of a battery rises with frequency, so include (See Datasheet)", 8 IN (power) "These pins supply power to the device. The LT3020 requires a bypass capacitor at IN if it is more than six inches away from the main input filter capacitor. The output impedance of a battery rises with frequency, so include (See Datasheet)"

## LT3020IMS8#TRPBF
designator U?
100 mA, Low Voltage, Very Low Dropout Linear Regulator, 0.9 to 10 V Vin, Adjustable Vout, 8-pin SOP (MS8-8), -40 to 125 degC, Pb-Free, Tape and Reel; Manufacturer: Linear Technology; PartNumber: LT3020IMS8#TRPBF; Discrete Pass Element: no; Dropout Voltage(V): 0.15; Iout(mA): 100; Isupply(mA): 0.12; Noise(uV): 245; Number of Outputs: 1; Output Voltage: Adj; PSRR(dB): 64; Shutdown Current(uA): 3; Vin Max(V): 10; Vin Min(V): 0.9; Vout Max(V): 9.8; Vout Min(V): 0.2; DatasheetVersion: Rev. C; PackageVersion: Rev. G, 03/2012; PackageReference: MS8-8; PackageDescription: 8-Pin Plastic MSOP, Body 3 x 3 mm, Pitch 0.65 mm; Supplier 1: Digi-Key; Supplier Part Number 1: LT3020IMS8#TRPBF-ND; Packing: Tape and Reel; RoHS: TRUE; Mounting Technology: Surface Mount; ComponentLink1Description: Manufacturer URL; ComponentLink1URL: http://www.linear.com/; ComponentLink2Description: Datasheet; ComponentLink2URL: http://cds.linear.com/docs/en/datasheet/3020fc.pdf; ComponentLink3Description: Package Specification; ComponentLink3URL: http://cds.linear.com/docs/en/packaging/05081660_G_MS8.pdf
footprint LT-MS8-8_N (SOP, 8-Leads, Body 3x3mm, Pitch 0.65mm, IPC Medium Density)
footprint LT-MS8-8_L (SOP, 8-Leads, Body 3x3mm, Pitch 0.65mm, IPC High Density)
footprint LT-MS8-8_M (SOP, 8-Leads, Body 3x3mm, Pitch 0.65mm, IPC Low Density)
pins: 1 OUT (power) "These pins supply power to the load. Use a minimum output capacitor of 2.2uF to prevent oscillations. Applications with large load transients require larger output capacitors to limit peak voltage transients. See the (See Datasheet)", 2 OUT (power) "These pins supply power to the load. Use a minimum output capacitor of 2.2uF to prevent oscillations. Applications with large load transients require larger output capacitors to limit peak voltage transients. See the (See Datasheet)", 3 ADJ (in) "This pin is the inverting terminal to the error amplifier. Its typical input bias current of 20nA flows out of the pin (see curve of ADJ Pin Bias Current vs Temperature in the Typical Performance Characteristics). The ADJ (See Datasheet)", 4 GND (power) "Ground.", 5 ~{SHDN} (in) "The S\H\D\N\ pin puts the LT3020 into a low power state. Pulling the S\H\D\N\ pin low turns the output off. Drive the S\H\D\N\ pin with either logic or an open collector/ drain device with a pull-up resistor. The pull-up (See Datasheet)", 6 NC, 7 IN (power) "These pins supply power to the device. The LT3020 requires a bypass capacitor at IN if it is more than six inches away from the main input filter capacitor. The output impedance of a battery rises with frequency, so include (See Datasheet)", 8 IN (power) "These pins supply power to the device. The LT3020 requires a bypass capacitor at IN if it is more than six inches away from the main input filter capacitor. The output impedance of a battery rises with frequency, so include (See Datasheet)"